# EAGLE library part LPC1114FN28 (library ichigojam)
Ichigojam ピン配列
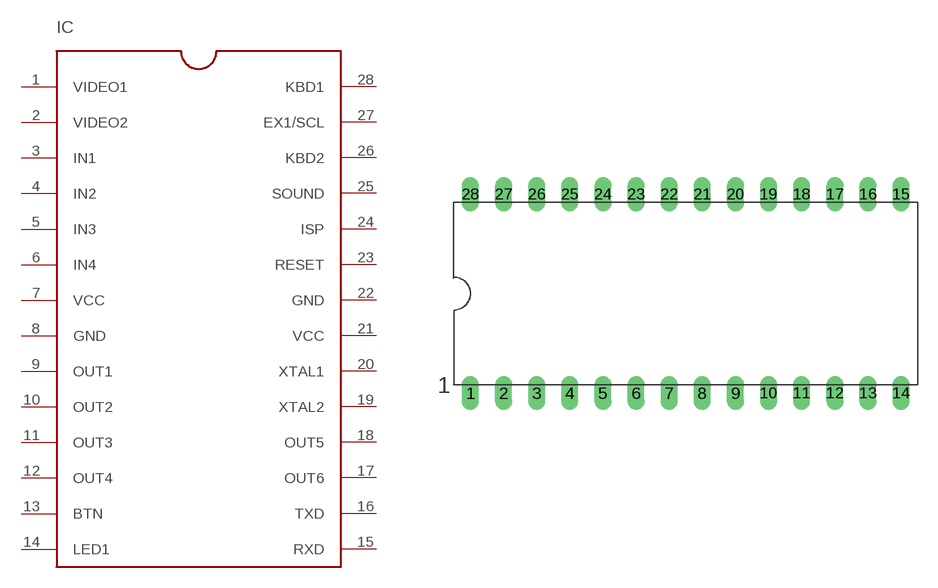
[diagram p0: symbol with the pads of DIP28; footprint DIP28]

Designator prefix IC

## LPC1114FN28  [DIP28]
1  VIDEO1
2  VIDEO2
3  IN1
4  IN2
5  IN3
6  IN4
7  VCC  pwr
8  GND  pwr
9  OUT1
10  OUT2
11  OUT3
12  OUT4
13  BTN
14  LED1
15  RXD
16  TXD
17  OUT6
18  OUT5
19  XTAL2  out
20  XTAL1  in
21  VCC  pwr
22  GND  pwr
23  RESET
24  ISP
25  SOUND
26  KBD2
27  EX1/SCL
28  KBD1

## Footprint DIP28 (pad centres in mm)
DIP28 (2.54mm 600mil)
drill 0.813 long: 1 -16.51,-7.62; 2 -13.97,-7.62; 3 -11.43,-7.62; 4 -8.89,-7.62; 5 -6.35,-7.62; 6 -3.81,-7.62; 7 -1.27,-7.62; 8 1.27,-7.62; 9 3.81,-7.62; 10 6.35,-7.62; 11 8.89,-7.62; 12 11.43,-7.62; 13 13.97,-7.62; 14 16.51,-7.62; 15 16.51,7.62; 16 13.97,7.62; 17 11.43,7.62; 18 8.89,7.62; 19 6.35,7.62; 20 3.81,7.62; 21 1.27,7.62; 22 -1.27,7.62; 23 -3.81,7.62; 24 -6.35,7.62; 25 -8.89,7.62; 26 -11.43,7.62; 27 -13.97,7.62; 28 -16.51,7.62